# Altium footprint library PC817.PcbLib: 2 footprints
Each footprint in its own frame and in the unit in brackets; x right, y up, seen from the top. Pads: shape width x height; smd on the part's side, far side on the other; paste and mask are expansions set on the pad; w line width, h text height; cw(c..) or ccw(c..) is an arc to the next point about the centre after c.
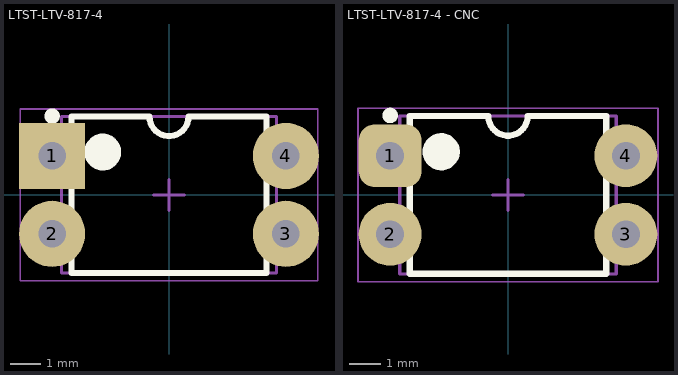
[diagram p0: the footprints below, top view; thin cyan lines are the x and y axes]

## LTST-LTV-817-4 [mil] "DIP, 4-Leads, Body 7x5.1mm, Pitch 2.54mm"
height 177.17
pads (4):
  rect 85x85 hole 35.43: 1(-150,50)
  round 85 hole 35.43: 2(-150,-50) 3(150,-50) 4(150,50)
Top Overlay:
  circle w9.84: c-150,101.18 r4.92
  circle w23.62: c-85,55 r11.81
  lines w7.87: -125,-100.39 -125,100.39 -25,100.39 ccw(c0,100.39) 25,100.39 125,100.39 125,-100.39 -125,-100.39
Mechanical 13:
  circle w3.94: c-85,55 r19.68
  lines w3.94: -137.8,-100.39 -137.8,100.39 137.8,100.39 137.8,-100.39 -137.8,-100.39
Mechanical 15:
  lines w1.97: -190.94,-110.24 -190.94,110.24 190.94,110.24 190.94,-110.24 -190.94,-110.24
  lines w3.94: -19.68,0 19.68,0 ; 0,-19.68 0,19.68
3D body "PS817 THD photocoupler.stp": height 163.94, standoff -109.88, extent -195.76,-90 193.76,91.1

## LTST-LTV-817-4 - CNC [mil] "DIP, 4-Leads, Body 7x5.1mm, Pitch 2.54mm"
height 177.17
pads (4):
  rrect50% 80x80 hole 35.43: 1(-150,50)
  round 80 hole 35.43: 2(-150,-50) 3(150,-50) 4(150,50)
Top Overlay:
  circle w23.62: c-85,55 r11.81
  circle w9.84: c-150,101.18 r4.92
  lines w7.87: -125,-100.39 125,-100.39 125,100.39 25,100.39 cw(c0,100.39) -25,100.39 -125,100.39 -125,-100.39
Mechanical 13:
  circle w3.94: c-85,55 r19.68
  lines w3.94: -137.8,-100.39 137.8,-100.39 137.8,100.39 -137.8,100.39 -137.8,-100.39
Mechanical 15:
  lines w1.97: -190.94,-110.24 190.94,-110.24 190.94,110.24 -190.94,110.24 -190.94,-110.24
  lines w3.94: -19.68,0 19.68,0 ; 0,-19.68 0,19.68
3D body "PS817 THD photocoupler.stp": height 163.94, standoff -109.88, extent -195.76,-90 193.76,91.1